# EAGLE library part IPL1-115-01-XX-D (library BMS_Slave_v2)
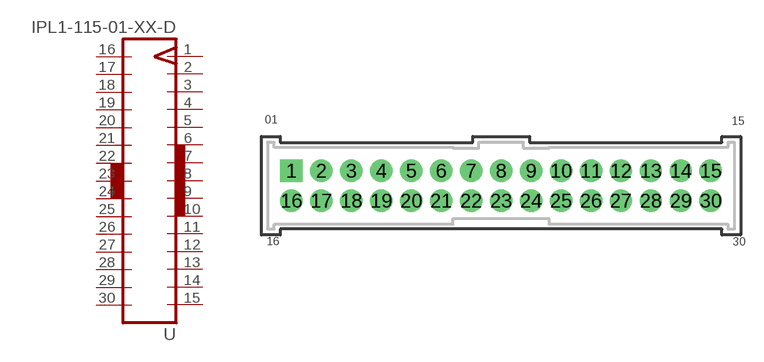
[diagram p6: symbol with the pads of IPL1-115-01-XX-D; footprint IPL1-115-01-XX-D]

Designator prefix -

## IPL1-115-01-XX-D  [IPL1-115-01-XX-D]
1  1
2  2
3  3
4  4
5  5
6  6
7  7
8  8
9  9
10  10
11  11
12  12
13  13
14  14
15  15
16  16
17  17
18  18
19  19
20  20
21  21
22  22
23  23
24  24
25  25
26  26
27  27
28  28
29  29
30  30

## Footprint IPL1-115-01-XX-D (pad centres in mm)
.100 inch [2.54mm] Double Row Terminal Assembly
drill 1.02 pad 1.9 square: 1 0,0
drill 1.02 pad 1.9: 2 2.54,0; 3 5.08,0; 4 7.62,0; 5 10.16,0; 6 12.7,0; 7 15.24,0; 8 17.78,0; 9 20.32,0; 10 22.86,0; 11 25.4,0; 12 27.94,0; 13 30.48,0; 14 33.02,0; 15 35.56,0; 16 0,-2.54; 17 2.54,-2.54; 18 5.08,-2.54; 19 7.62,-2.54; 20 10.16,-2.54; 21 12.7,-2.54; 22 15.24,-2.54; 23 17.78,-2.54; 24 20.32,-2.54; 25 22.86,-2.54; 26 25.4,-2.54; 27 27.94,-2.54; 28 30.48,-2.54; 29 33.02,-2.54; 30 35.56,-2.54